# Altium footprint library POT_3310P-025.PcbLib: 1 footprints
Each footprint in its own frame and in the unit in brackets; x right, y up, seen from the top. Pads: shape width x height; smd on the part's side, far side on the other; paste and mask are expansions set on the pad; w line width, h text height; cw(c..) or ccw(c..) is an arc to the next point about the centre after c.
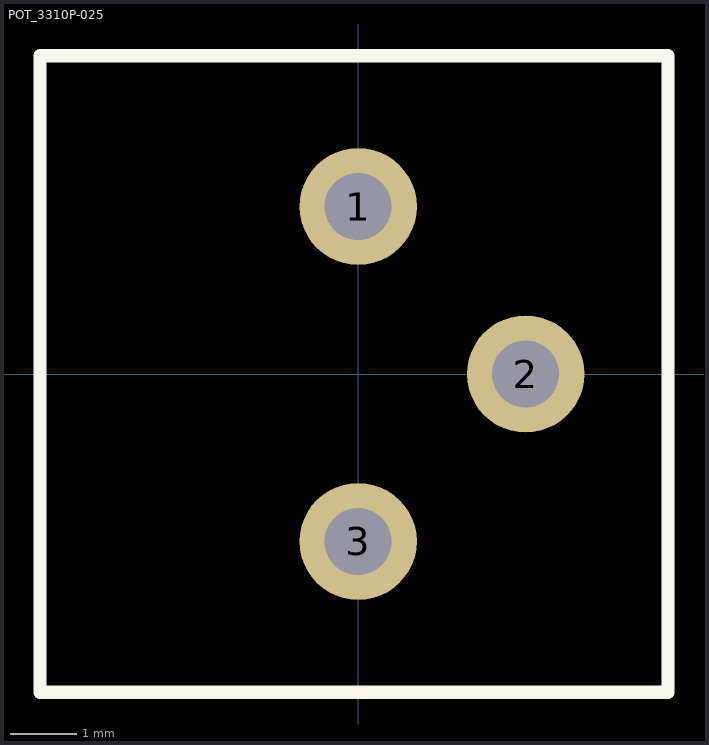
[diagram p0: the footprint, top view; thin cyan lines are the x and y axes]

## POT_3310P-025 [mil] "Bourns 3310P-025 Series Potentiometers"
pads (3):
  round 70 hole 40: 1(0,100) 2(100,0) 3(0,-100)
Top Overlay:
  lines w7.87: -190,-190 185,-190 185,190 -190,190 -190,-190
3D body "3310p-025.stp": height 382.5, standoff -236, extent -190,-187.5 185,187.5